# Altium footprint library Axial 52mm Pitch.PcbLib: 1 footprints
Each footprint in its own frame and in the unit in brackets; x right, y up, seen from the top. Pads: shape width x height; smd on the part's side, far side on the other; paste and mask are expansions set on the pad; w line width, h text height; cw(c..) or ccw(c..) is an arc to the next point about the centre after c.
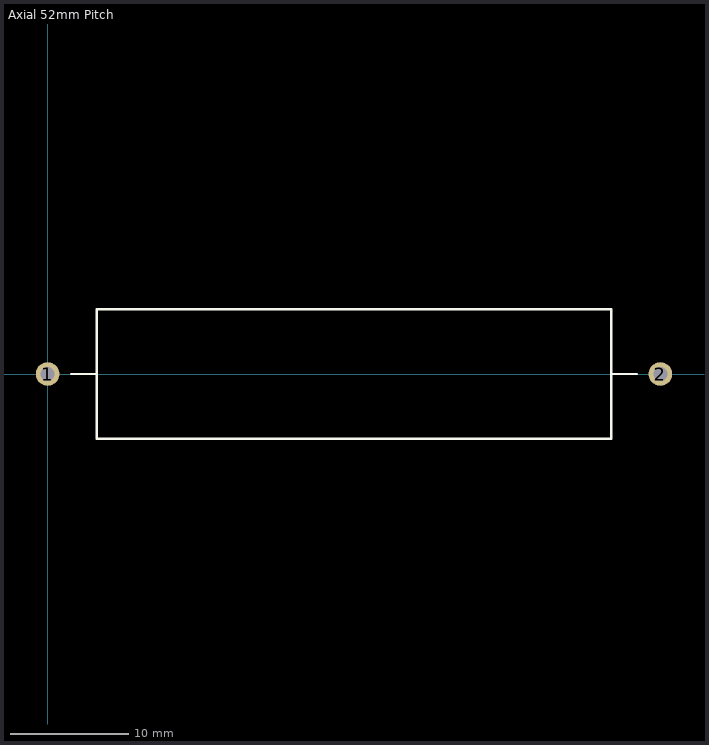
[diagram p0: the footprint, top view; thin cyan lines are the x and y axes]

## Axial 52mm Pitch [mm]
pads (2):
  round 2 hole 1.2: 1(0,0) 2(52,0)
Top Overlay:
  lines w0.2: 2,0 4.175,0 ; 47.825,0 50,0 ; 4.175,0 4.175,5.5 47.825,5.5 47.825,-5.5 4.175,-5.5 4.175,0
3D body: height 9.1, standoff 0, extent 4.191,-5.461 47.879,5.461